# EAGLE library part ?M15B-SRSS-TB (library jack_connector)
Disconnectable Crimp style connector, 1.0mm pitch 15 contacts
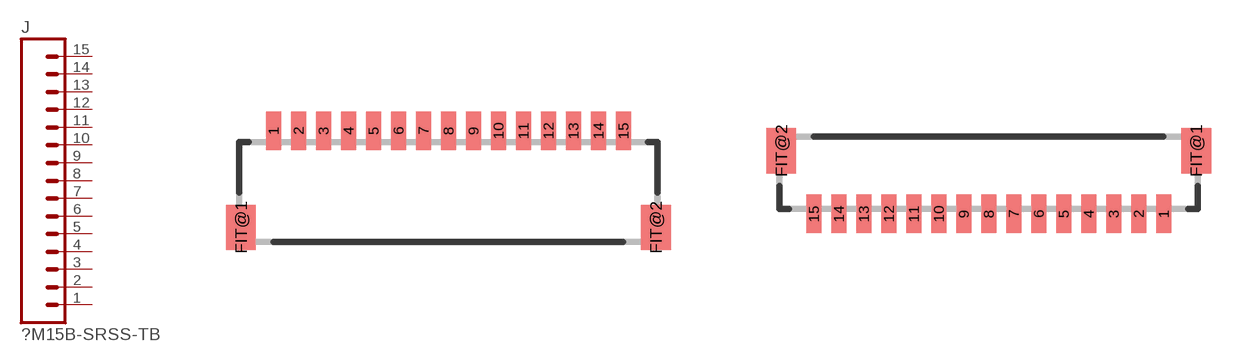
[diagram p14: symbol with the pads of SM15B-SRSS-TB; footprints SM15B-SRSS-TB, BM15B-SRSS-TB]

Designator prefix J

## SM15B-SRSS-TB  [SM15B-SRSS-TB]
1  1  pas
2  2  pas
3  3  pas
4  4  pas
5  5  pas
6  6  pas
7  7  pas
8  8  pas
9  9  pas
10  10  pas
11  11  pas
12  12  pas
13  13  pas
14  14  pas
15  15  pas

## BM15B-SRSS-TB  [BM15B-SRSS-TB]
Pads as for SM15B-SRSS-TB

## Footprint SM15B-SRSS-TB (pad centres in mm)
Shrouded Header, side entry type https://www.digikey.com/product-detail/en/jst-sales-america-inc/SM15B-SRSS-TB-LF-SN/455-1815-1-ND/926886
smd 0.6 x 1.55: 1 -7,2.975; 2 -6,2.975; 3 -5,2.975; 4 -4,2.975; 5 -3,2.975; 6 -2,2.975; 7 -1,2.975; 8 0,2.975; 9 1,2.975; 10 2,2.975; 11 3,2.975; 12 4,2.975; 13 5,2.975; 14 6,2.975; 15 7,2.975
smd 1.2 x 1.8: FIT@1 -8.3,-0.9; FIT@2 8.3,-0.9

## Footprint BM15B-SRSS-TB (pad centres in mm)
Shrouded Header, top entry type https://www.digikey.com/product-detail/en/jst-sales-america-inc/BM15B-SRSS-TB-LF-SN/455-1801-1-ND/926872
smd 0.6 x 1.55: 1 7,-1.625; 2 6,-1.625; 3 5,-1.625; 4 4,-1.625; 5 3,-1.625; 6 2,-1.625; 7 1,-1.625; 8 0,-1.625; 9 -1,-1.625; 10 -2,-1.625; 11 -3,-1.625; 12 -4,-1.625; 13 -5,-1.625; 14 -6,-1.625; 15 -7,-1.625
smd 1.2 x 1.8: FIT@1 8.3,0.9; FIT@2 -8.3,0.9